# EAGLE library part EG4319 (library switches)
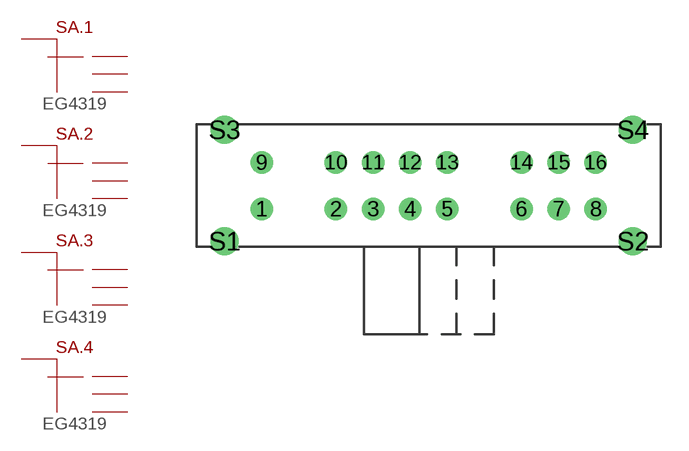
[diagram p5: symbol with the pads of ESWITCH-EG4319; footprint ESWITCH-EG4319]

Designator prefix SA; gates .1=SWITCH-3POS .2=SWITCH-3POS .3=SWITCH-3POS .4=SWITCH-3POS

## EG4319 (MOUSER: 612-EG2219)  [ESWITCH-EG4319]
1  .1:1  pas
2  .1:CM  pas
3  .1:2  pas
4  .1:3  pas
5  .2:1  pas
6  .2:CM  pas
7  .2:2  pas
8  .2:3  pas
9  .3:1  pas
10  .3:CM  pas
11  .3:2  pas
12  .3:3  pas
13  .4:1  pas
14  .4:CM  pas
15  .4:2  pas
16  .4:3  pas

## Footprint ESWITCH-EG4319 (pad centres in mm)
drill 0.7: 1 -9,-1.25; 2 -5,-1.25; 3 -3,-1.25; 4 -1,-1.25; 5 1,-1.25; 6 5,-1.25; 7 7,-1.25; 8 9,-1.25; 9 -9,1.25; 10 -5,1.25; 11 -3,1.25; 12 -1,1.25; 13 1,1.25; 14 5,1.25; 15 7,1.25; 16 9,1.25
drill 1: S1 -11,-3; S2 11,-3; S3 -11,3; S4 11,3